# Altium footprint library SSOP-28.PcbLib: 1 footprints
Each footprint in its own frame and in the unit in brackets; x right, y up, seen from the top. Pads: shape width x height; smd on the part's side, far side on the other; paste and mask are expansions set on the pad; w line width, h text height; cw(c..) or ccw(c..) is an arc to the next point about the centre after c.
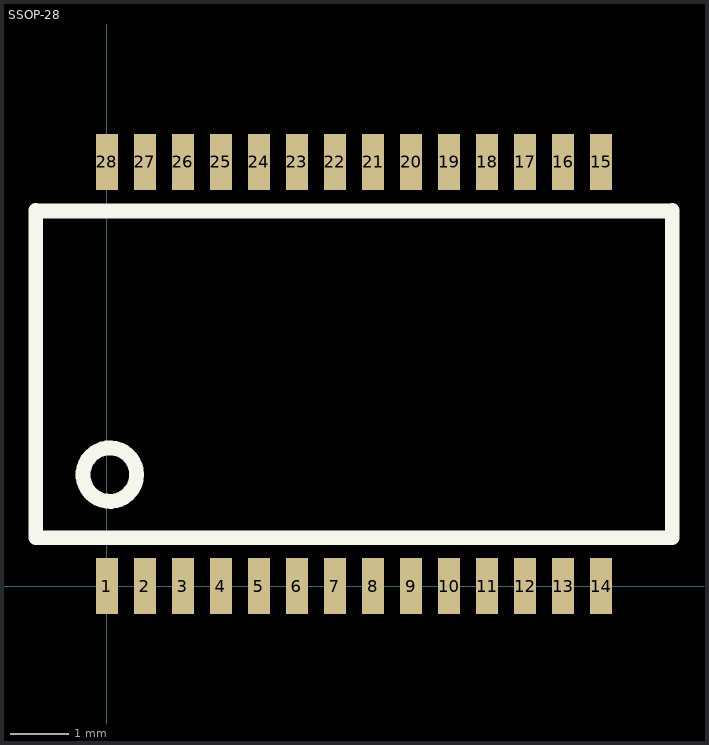
[diagram p0: the footprint, top view; thin cyan lines are the x and y axes]

## SSOP-28 [mm]
height 2
pads (28):
  rect 0.38x0.95 smd: 1(0,0) 2(0.65,0) 3(1.3,0) 4(1.95,0) 5(2.6,0) 6(3.25,0) 7(3.9,0) 8(4.55,0) 9(5.2,0) 10(5.85,0) 11(6.5,0) 12(7.15,0) 13(7.8,0) 14(8.45,0) 15(8.45,7.25) 16(7.8,7.25) 17(7.15,7.25) 18(6.5,7.25) 19(5.85,7.25) 20(5.2,7.25) 21(4.55,7.25) 22(3.9,7.25) 23(3.25,7.25) 24(2.6,7.25) 25(1.95,7.25) 26(1.3,7.25) 27(0.65,7.25) 28(0,7.25)
Top Overlay:
  circle w0.254: c0.05,1.905 r0.458
  lines w0.254: -1.215,6.413 9.665,6.413 ; -1.215,6.425 -1.215,0.825 9.665,0.825 9.665,6.425
3D body: height 2, standoff 0, extent -1.27,0.762 9.779,6.477